# Altium footprint library GRM31A5C2E272JWA1D.PcbLib: 1 footprints
Each footprint in its own frame and in the unit in brackets; x right, y up, seen from the top. Pads: shape width x height; smd on the part's side, far side on the other; paste and mask are expansions set on the pad; w line width, h text height; cw(c..) or ccw(c..) is an arc to the next point about the centre after c.
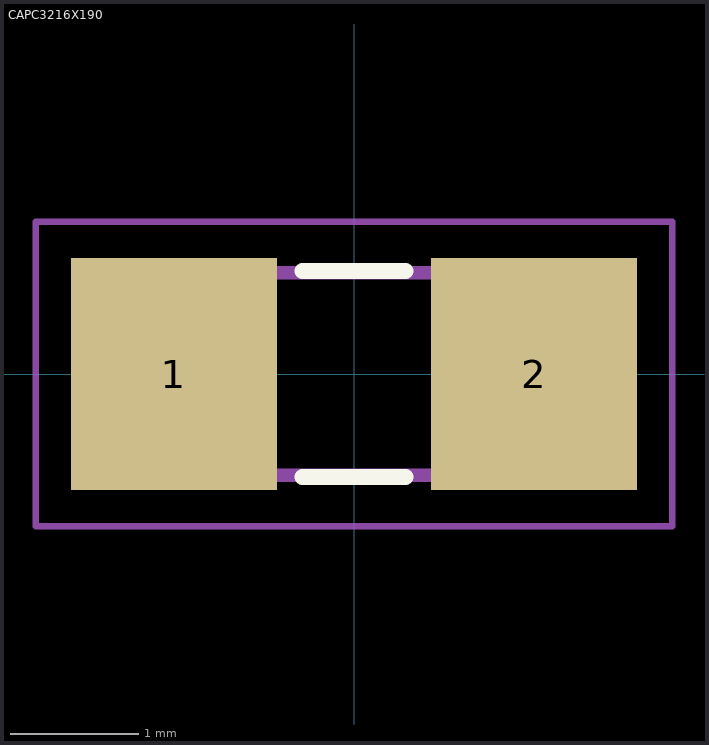
[diagram p0: the footprint, top view; thin cyan lines are the x and y axes]

## CAPC3216X190 [mm]
pads (2):
  rect 1.6x1.8 smd: 1(-1.4,0) 2(1.4,0)
Top Overlay:
  lines w0.127: -0.4,-0.8 0.4,-0.8 ; -0.4,0.8 0.4,0.8
Mechanical 13:
  lines w0.102: -0.965,-0.787 0.965,-0.787 ; -0.965,0.787 0.965,0.787
Mechanical 15:
  lines w0.051: -2.473,-1.183 -2.473,1.183 2.473,1.183 2.473,-1.183 -2.473,-1.183
3D body "step_temp.STEP": height 1.5, standoff 0, extent -1.6,-0.8 1.6,0.8